# EAGLE library part ADS1115 (library Adafruit_Arduino)
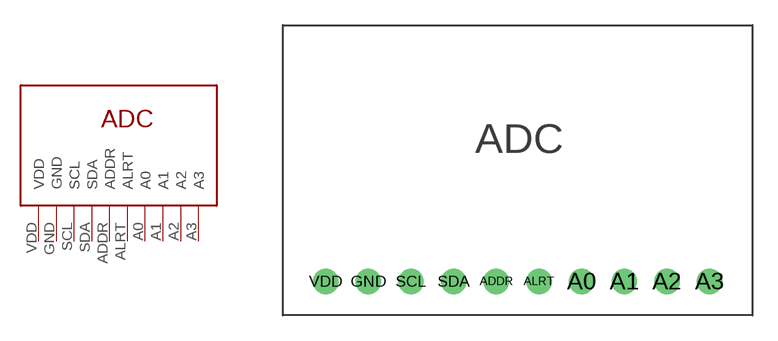
[diagram p5: symbol with the pads of ADS1115; footprint ADS1115]

Designator prefix -

## ADS1115  [ADS1115]
A0  A0
A1  A1
A2  A2
A3  A3
ADDR  ADDR
ALRT  ALRT
GND  GND
SCL  SCL
SDA  SDA
VDD  VDD

## Footprint ADS1115 (pad centres in mm)
drill 1: A0 3.81,-6.604; A1 6.35,-6.604; A2 8.89,-6.604; A3 11.43,-6.604; ADDR -1.27,-6.604; ALRT 1.27,-6.604; GND -8.89,-6.604; SCL -6.35,-6.604; SDA -3.81,-6.604; VDD -11.43,-6.604